# EAGLE library part DG459DJ-E3 (library Vishay)
Fault-Protected Single 8-Ch/Differential 4-Ch Analog Multiplexers
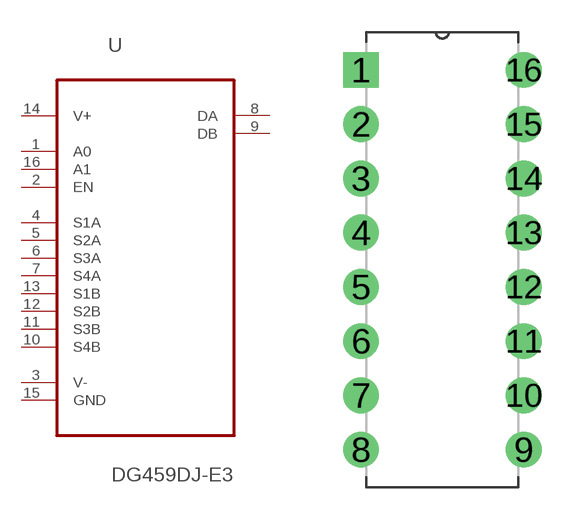
[diagram p61: symbol with the pads of DIP254P762X508-16; footprint DIP254P762X508-16]

Designator prefix U

## DG459DJ-E3 (MPN: DG459DJ-E3; OC_FARNELL: 1364687; OC_NEWARK: 49K9659; PACKAGE: PDIP-16; SUPPLIER: VISHAY SILICONIX)  [DIP254P762X508-16]
1  A0  in
2  EN  in
3  V-  in
4  S1A  pas
5  S2A  pas
6  S3A  pas
7  S4A  pas
8  DA  out
9  DB  pas
10  S4B  pas
11  S3B  pas
12  S2B  pas
13  S1B  pas
14  V+  in
15  GND  pas
16  A1  in

## Footprint DIP254P762X508-16 (pad centres in mm)
drill 1.118 square: 1 -7.62,17.78
drill 1.118: 2 -7.62,15.24; 3 -7.62,12.7; 4 -7.62,10.16; 5 -7.62,7.62; 6 -7.62,5.08; 7 -7.62,2.54; 8 -7.62,0; 9 0,0; 10 0,2.54; 11 0,5.08; 12 0,7.62; 13 0,10.16; 14 0,12.7; 15 0,15.24; 16 0,17.78